# EAGLE library part CBTL02042ABQ,115 (library ruark2)
DisplayPort, PCIe, USB Switch IC 2 Channel 20-DHVQFN (4.5x2.5)
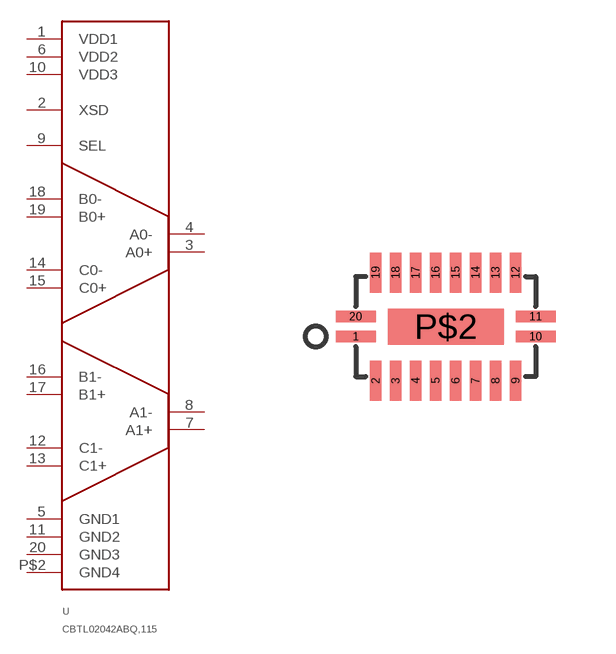
[diagram p157: symbol with the pads of DHVQFN20; footprint DHVQFN20]

Designator prefix U

## CBTL02042ABQ,115 (PARTNO: 568-6676-1-ND)  [DHVQFN20]
1  VDD1
2  XSD
3  A0+
4  A0-
5  GND1
6  VDD2
7  A1+
8  A1-
9  SEL
10  VDD3
11  GND2
12  C1-
13  C1+
14  C0-
15  C0+
16  B1-
17  B1+
18  B0-
19  B0+
20  GND3
P$2  GND4

## Footprint DHVQFN20 (pad centres in mm)
smd 1 x 0.29: 1 -2.25,-0.25; 10 2.25,-0.25; 11 2.25,0.25; 20 -2.25,0.25
smd 0.29 x 1: 2 -1.75,-1.35; 3 -1.25,-1.35; 4 -0.75,-1.35; 5 -0.25,-1.35; 6 0.25,-1.35; 7 0.75,-1.35; 8 1.25,-1.35; 9 1.75,-1.35; 12 1.75,1.35; 13 1.25,1.35; 14 0.75,1.35; 15 0.25,1.35; 16 -0.25,1.35; 17 -0.75,1.35; 18 -1.25,1.35; 19 -1.75,1.35
smd 2.9 x 0.9: P$2 0,0